# Altium footprint library micro-philips.PCBLIB: 60 footprints (part 5 of 5)
Each footprint in its own frame and in the unit in brackets; x right, y up, seen from the top. Pads: shape width x height; smd on the part's side, far side on the other; paste and mask are expansions set on the pad; w line width, h text height; cw(c..) or ccw(c..) is an arc to the next point about the centre after c.
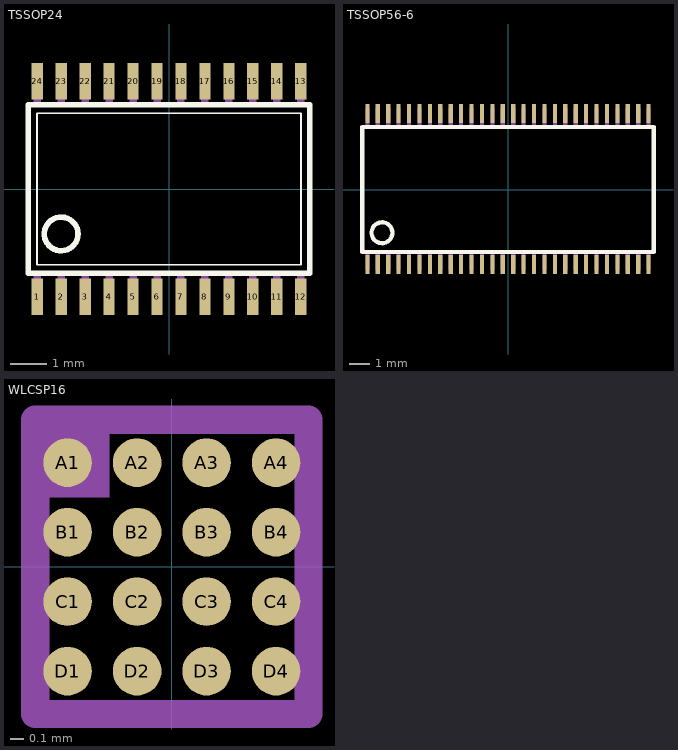
[diagram p4: the footprints below, top view; thin cyan lines are the x and y axes]

## TSSOP24 [mil]
pads (24):
  rect 12x39 smd: 1(-140.75,-114.87) 2(-115.16,-114.87) 3(-89.57,-114.87) 4(-63.98,-114.87) 5(-38.39,-114.87) 6(-12.8,-114.87) 7(12.8,-114.87) 8(38.39,-114.87) 9(63.98,-114.87) 10(89.57,-114.87) 11(115.16,-114.87) 12(140.75,-114.87) 13(140.75,114.87) 14(115.16,114.87) 15(89.57,114.87) 16(63.98,114.87) 17(38.39,114.87) 18(12.8,114.87) 19(-12.8,114.87) 20(-38.39,114.87) 21(-63.98,114.87) 22(-89.57,114.87) 23(-115.16,114.87) 24(-140.75,114.87)
Top Overlay:
  circle w6: c-115.18,-48 r18
  lines w2: -141.18,-80.87 141.18,-80.87 141.18,80.87 -141.18,80.87 -141.18,-80.87
  lines w6: -150.18,-89.87 150.18,-89.87 150.18,89.87 -150.18,89.87 -150.18,-89.87
Mechanical 16:
  rectangle: -144.75,-122.87 -136.75,-89.87
  rectangle: -119.16,-122.87 -111.16,-89.87
  rectangle: -93.57,-122.87 -85.57,-89.87
  rectangle: -67.98,-122.87 -59.98,-89.87
  rectangle: -42.39,-122.87 -34.39,-89.87
  rectangle: -16.8,-122.87 -8.8,-89.87
  rectangle: 8.8,-122.87 16.8,-89.87
  rectangle: 34.39,-122.87 42.39,-89.87
  rectangle: 59.98,-122.87 67.98,-89.87
  rectangle: 85.57,-122.87 93.57,-89.87
  rectangle: 111.16,-122.87 119.16,-89.87
  rectangle: 136.75,-122.87 144.75,-89.87
  rectangle: 136.75,89.87 144.75,122.87
  rectangle: 111.16,89.87 119.16,122.87
  rectangle: 85.57,89.87 93.57,122.87
  rectangle: 59.98,89.87 67.98,122.87
  rectangle: 34.39,89.87 42.39,122.87
  rectangle: 8.8,89.87 16.8,122.87
  rectangle: -16.8,89.87 -8.8,122.87
  rectangle: -42.39,89.87 -34.39,122.87
  rectangle: -67.98,89.87 -59.98,122.87
  rectangle: -93.57,89.87 -85.57,122.87
  rectangle: -119.16,89.87 -111.16,122.87
  rectangle: -144.75,89.87 -136.75,122.87

## TSSOP56-6 [mm]
pads (56):
  rect 0.2x0.9 smd: 1(-6.75,-3.6) 2(-6.25,-3.6) 3(-5.75,-3.6) 4(-5.25,-3.6) 5(-4.75,-3.6) 6(-4.25,-3.6) 7(-3.75,-3.6) 8(-3.25,-3.6) 9(-2.75,-3.6) 10(-2.25,-3.6) 11(-1.75,-3.6) 12(-1.25,-3.6) 13(-0.75,-3.6) 14(-0.25,-3.6) 15(0.25,-3.6) 16(0.75,-3.6) 17(1.25,-3.6) 18(1.75,-3.6) 19(2.25,-3.6) 20(2.75,-3.6) 21(3.25,-3.6) 22(3.75,-3.6) 23(4.25,-3.6) 24(4.75,-3.6) 25(5.25,-3.6) 26(5.75,-3.6) 27(6.25,-3.6) 28(6.75,-3.6) 29(6.75,3.66) 30(6.25,3.66) 31(5.75,3.66) 32(5.25,3.66) 33(4.75,3.66) 34(4.25,3.66) 35(3.75,3.66) 36(3.25,3.66) 37(2.75,3.66) 38(2.25,3.66) 39(1.75,3.66) 40(1.25,3.66) 41(0.75,3.66) 42(0.25,3.66) 43(-0.25,3.66) 44(-0.75,3.66) 45(-1.25,3.66) 46(-1.75,3.66) 47(-2.25,3.66) 48(-2.75,3.66) 49(-3.25,3.66) 50(-3.75,3.66) 51(-4.25,3.66) 52(-4.75,3.66) 53(-5.25,3.66) 54(-5.75,3.66) 55(-6.25,3.66) 56(-6.75,3.66)
Top Overlay:
  circle w0.203: c-6.05,-2.07 r0.5
  lines w0.203: -7,-3 -7,3 7,3 7,-3 -7,-3
Mechanical 16:
  region: -6.65,-3.85 -6.65,-3.05 -6.85,-3.05 -6.85,-3.85
  region: -6.15,-3.85 -6.15,-3.05 -6.35,-3.05 -6.35,-3.85
  region: -5.65,-3.85 -5.65,-3.05 -5.85,-3.05 -5.85,-3.85
  region: -5.15,-3.85 -5.15,-3.05 -5.35,-3.05 -5.35,-3.85
  region: -4.65,-3.85 -4.65,-3.05 -4.85,-3.05 -4.85,-3.85
  region: -4.15,-3.85 -4.15,-3.05 -4.35,-3.05 -4.35,-3.85
  region: -3.65,-3.85 -3.65,-3.05 -3.85,-3.05 -3.85,-3.85
  region: -3.15,-3.85 -3.15,-3.05 -3.35,-3.05 -3.35,-3.85
  region: -2.65,-3.85 -2.65,-3.05 -2.85,-3.05 -2.85,-3.85
  region: -2.15,-3.85 -2.15,-3.05 -2.35,-3.05 -2.35,-3.85
  region: -1.65,-3.85 -1.65,-3.05 -1.85,-3.05 -1.85,-3.85
  region: -1.15,-3.85 -1.15,-3.05 -1.35,-3.05 -1.35,-3.85
  region: -0.65,-3.85 -0.65,-3.05 -0.85,-3.05 -0.85,-3.85
  region: -0.15,-3.85 -0.15,-3.05 -0.35,-3.05 -0.35,-3.85
  region: 0.35,-3.85 0.35,-3.05 0.15,-3.05 0.15,-3.85
  region: 0.85,-3.85 0.85,-3.05 0.65,-3.05 0.65,-3.85
  region: 1.35,-3.85 1.35,-3.05 1.15,-3.05 1.15,-3.85
  region: 1.85,-3.85 1.85,-3.05 1.65,-3.05 1.65,-3.85
  region: 2.35,-3.85 2.35,-3.05 2.15,-3.05 2.15,-3.85
  region: 2.85,-3.85 2.85,-3.05 2.65,-3.05 2.65,-3.85
  region: 3.35,-3.85 3.35,-3.05 3.15,-3.05 3.15,-3.85
  region: 3.85,-3.85 3.85,-3.05 3.65,-3.05 3.65,-3.85
  region: 4.35,-3.85 4.35,-3.05 4.15,-3.05 4.15,-3.85
  region: 4.85,-3.85 4.85,-3.05 4.65,-3.05 4.65,-3.85
  region: 5.35,-3.85 5.35,-3.05 5.15,-3.05 5.15,-3.85
  region: 5.85,-3.85 5.85,-3.05 5.65,-3.05 5.65,-3.85
  region: 6.35,-3.85 6.35,-3.05 6.15,-3.05 6.15,-3.85
  region: 6.85,-3.85 6.85,-3.05 6.65,-3.05 6.65,-3.85
  region: 6.85,3.11 6.85,3.91 6.65,3.91 6.65,3.11
  region: 6.35,3.11 6.35,3.91 6.15,3.91 6.15,3.11
  region: 5.85,3.11 5.85,3.91 5.65,3.91 5.65,3.11
  region: 5.35,3.11 5.35,3.91 5.15,3.91 5.15,3.11
  region: 4.85,3.11 4.85,3.91 4.65,3.91 4.65,3.11
  region: 4.35,3.11 4.35,3.91 4.15,3.91 4.15,3.11
  region: 3.85,3.11 3.85,3.91 3.65,3.91 3.65,3.11
  region: 3.35,3.11 3.35,3.91 3.15,3.91 3.15,3.11
  region: 2.85,3.11 2.85,3.91 2.65,3.91 2.65,3.11
  region: 2.35,3.11 2.35,3.91 2.15,3.91 2.15,3.11
  region: 1.85,3.11 1.85,3.91 1.65,3.91 1.65,3.11
  region: 1.35,3.11 1.35,3.91 1.15,3.91 1.15,3.11
  region: 0.85,3.11 0.85,3.91 0.65,3.91 0.65,3.11
  region: 0.35,3.11 0.35,3.91 0.15,3.91 0.15,3.11
  region: -0.15,3.11 -0.15,3.91 -0.35,3.91 -0.35,3.11
  region: -0.65,3.11 -0.65,3.91 -0.85,3.91 -0.85,3.11
  region: -1.15,3.11 -1.15,3.91 -1.35,3.91 -1.35,3.11
  region: -1.65,3.11 -1.65,3.91 -1.85,3.91 -1.85,3.11
  region: -2.15,3.11 -2.15,3.91 -2.35,3.91 -2.35,3.11
  region: -2.65,3.11 -2.65,3.91 -2.85,3.91 -2.85,3.11
  region: -3.15,3.11 -3.15,3.91 -3.35,3.91 -3.35,3.11
  region: -3.65,3.11 -3.65,3.91 -3.85,3.91 -3.85,3.11
  region: -4.15,3.11 -4.15,3.91 -4.35,3.91 -4.35,3.11
  region: -4.65,3.11 -4.65,3.91 -4.85,3.91 -4.85,3.11
  region: -5.15,3.11 -5.15,3.91 -5.35,3.91 -5.35,3.11
  region: -5.65,3.11 -5.65,3.91 -5.85,3.91 -5.85,3.11
  region: -6.15,3.11 -6.15,3.91 -6.35,3.91 -6.35,3.11
  region: -6.65,3.11 -6.65,3.91 -6.85,3.91 -6.85,3.11

## WLCSP16 [mm]
pads (16):
  rrect100% 0.35x0.35 smd: A1(-0.75,0.75) A2(-0.25,0.75) A3(0.25,0.75) A4(0.75,0.75) B1(-0.75,0.25) B2(-0.25,0.25) B3(0.25,0.25) B4(0.75,0.25) C1(-0.75,-0.25) C2(-0.25,-0.25) C3(0.25,-0.25) C4(0.75,-0.25) D1(-0.75,-0.75) D2(-0.25,-0.75) D3(0.25,-0.75) D4(0.75,-0.75)
Top Solder:
  circle w0: c-0.75,0.75 r0.205
  circle w0: c-0.25,0.75 r0.205
  circle w0: c0.25,0.75 r0.205
  circle w0: c0.75,0.75 r0.205
  circle w0: c-0.75,0.25 r0.205
  circle w0: c-0.25,0.25 r0.205
  circle w0: c0.25,0.25 r0.205
  circle w0: c0.75,0.25 r0.205
  circle w0: c-0.75,-0.25 r0.205
  circle w0: c-0.25,-0.25 r0.205
  circle w0: c0.25,-0.25 r0.205
  circle w0: c0.75,-0.25 r0.205
  circle w0: c-0.75,-0.75 r0.205
  circle w0: c-0.25,-0.75 r0.205
  circle w0: c0.25,-0.75 r0.205
  circle w0: c0.75,-0.75 r0.205
Mechanical 16:
  rectangle: -1.025,0.5 -0.45,1.1
  lines w0.203: -0.983,-1.058 0.983,-1.058 0.983,1.058 -0.983,1.058 -0.983,-1.058